# EAGLE library part FT2232HL (library ftdi)
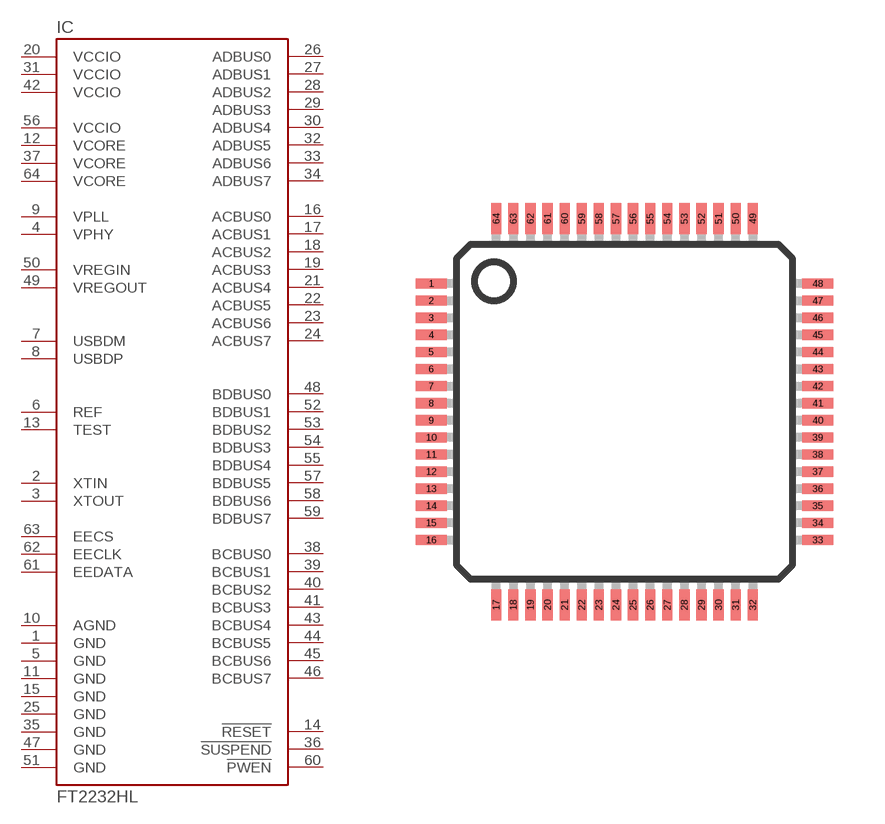
[diagram p5: symbol with the pads of LQFP64; footprint LQFP64]

Designator prefix IC

## FT2232HL  [LQFP64]
1  GND  pwr
2  XTIN
3  XTOUT
4  VPHY  out
5  GND  pwr
6  REF
7  USBDM
8  USBDP
9  VPLL
10  AGND  pwr
11  GND  pwr
12  VCORE
13  TEST  in
14  !RESET
15  GND
16  ACBUS0
17  ACBUS1
18  ACBUS2
19  ACBUS3
20  VCCIO  pwr
21  ACBUS4
22  ACBUS5
23  ACBUS6
24  ACBUS7
25  GND
26  ADBUS0
27  ADBUS1
28  ADBUS2
29  ADBUS3
30  ADBUS4
31  VCCIO  pwr
32  ADBUS5
33  ADBUS6
34  ADBUS7
35  GND
36  !SUSPEND
37  VCORE  pwr
38  BCBUS0
39  BCBUS1
40  BCBUS2
41  BCBUS3
42  VCCIO
43  BCBUS4
44  BCBUS5
45  BCBUS6
46  BCBUS7
47  GND
48  BDBUS0  out
49  VREGOUT
50  VREGIN
51  GND
52  BDBUS1  in
53  BDBUS2  out
54  BDBUS3  in
55  BDBUS4  out
56  VCCIO
57  BDBUS5  in
58  BDBUS6  in
59  BDBUS7  in
60  !PWEN
61  EEDATA
62  EECLK
63  EECS
64  VCORE

## Footprint LQFP64 (pad centres in mm)
64-Lead Low Profile Quad Flat Package [LQFP] (ST-64-2) COMPLIANT TO JEDEC STANDARDS MS-026-BCD Source: http://www.analog.com/UploadedFiles/Data_Sheets/288945048AD7C7019_20_1_2_4_5_6_7_0.pdf
smd 0.9 x 0.3: 1 -5.65,3.75; 2 -5.65,3.25; 3 -5.65,2.75; 4 -5.65,2.25; 5 -5.65,1.75; 6 -5.65,1.25; 7 -5.65,0.75; 8 -5.65,0.25; 9 -5.65,-0.25; 10 -5.65,-0.75; 11 -5.65,-1.25; 12 -5.65,-1.75; 13 -5.65,-2.25; 14 -5.65,-2.75; 15 -5.65,-3.25; 16 -5.65,-3.75; 33 5.65,-3.75; 34 5.65,-3.25; 35 5.65,-2.75; 36 5.65,-2.25; 37 5.65,-1.75; 38 5.65,-1.25; 39 5.65,-0.75; 40 5.65,-0.25; 41 5.65,0.25; 42 5.65,0.75; 43 5.65,1.25; 44 5.65,1.75; 45 5.65,2.25; 46 5.65,2.75; 47 5.65,3.25; 48 5.65,3.75
smd 0.3 x 0.9: 17 -3.75,-5.65; 18 -3.25,-5.65; 19 -2.75,-5.65; 20 -2.25,-5.65; 21 -1.75,-5.65; 22 -1.25,-5.65; 23 -0.75,-5.65; 24 -0.25,-5.65; 25 0.25,-5.65; 26 0.75,-5.65; 27 1.25,-5.65; 28 1.75,-5.65; 29 2.25,-5.65; 30 2.75,-5.65; 31 3.25,-5.65; 32 3.75,-5.65; 49 3.75,5.65; 50 3.25,5.65; 51 2.75,5.65; 52 2.25,5.65; 53 1.75,5.65; 54 1.25,5.65; 55 0.75,5.65; 56 0.25,5.65; 57 -0.25,5.65; 58 -0.75,5.65; 59 -1.25,5.65; 60 -1.75,5.65; 61 -2.25,5.65; 62 -2.75,5.65; 63 -3.25,5.65; 64 -3.75,5.65